# EAGLE library part AK4127 (library Sparky)
The AK4127 is a stereo digital sample rate converter (SRC). The input sample rate ranges from 8kHz to 216kHz. The output sample rate is from 8kHz to 216kHz. The system can take very simple configuration because the AK4127 has an internal PLL and does not need any master clock at slave mode. The AK4127 is suitable for the application interfacing to different sample rates such as high-end Car Audio and DVD recorder.
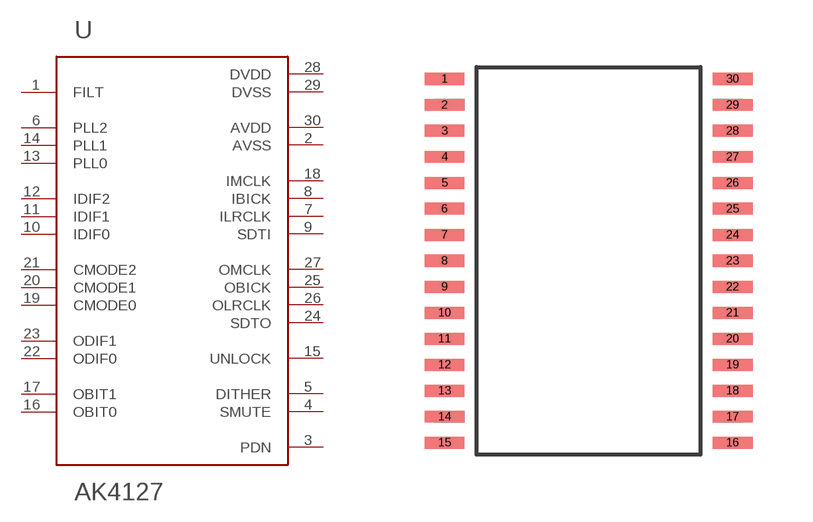
[diagram p13: symbol with the pads of TSSOP-30-DCP(0.65MM); footprint TSSOP-30-DCP(0.65MM)]

Designator prefix -

## AK4127TSSOP-30-DCP  [TSSOP-30-DCP(0.65MM)]
1  FILT
2  AVSS  pwr
3  PDN  in
4  SMUTE  in
5  DITHER  in
6  PLL2  in
7  ILRCLK
8  IBICK
9  SDTI  in
10  IDIF0  in
11  IDIF1  in
12  IDIF2  in
13  PLL0  in
14  PLL1  in
15  UNLOCK  out
16  OBIT0  in
17  OBIT1  in
18  IMCLK
19  CMODE0  out
20  CMODE1  in
21  CMODE2  out
22  ODIF0
23  ODIF1  in
24  SDTO  out
25  OBICK
26  OLRCLK
27  OMCLK
28  DVDD  pwr
29  DVSS  pwr
30  AVDD  pwr

## Footprint TSSOP-30-DCP(0.65MM) (pad centres in mm)
smd 1 x 0.3: 1 -3.6,4.55; 2 -3.6,3.9; 3 -3.6,3.25; 4 -3.6,2.6; 5 -3.6,1.95; 6 -3.6,1.3; 7 -3.6,0.65; 8 -3.6,0; 9 -3.6,-0.65; 10 -3.6,-1.3; 11 -3.6,-1.95; 12 -3.6,-2.6; 13 -3.6,-3.25; 14 -3.6,-3.9; 15 -3.6,-4.55; 16 3.6,-4.55; 17 3.6,-3.9; 18 3.6,-3.25; 19 3.6,-2.6; 20 3.6,-1.95; 21 3.6,-1.3; 22 3.6,-0.65; 23 3.6,0; 24 3.6,0.65; 25 3.6,1.3; 26 3.6,1.95; 27 3.6,2.6; 28 3.6,3.25; 29 3.6,3.9; 30 3.6,4.55